# Altium integrated library C1005X5R1E224K050BC.IntLib: 1 symbol
Pins are listed as number, name and electrical type; pins without a type are passive.

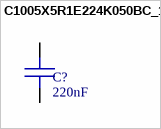
[diagram p0: symbol C1005X5R1E224K050BC_1]

## C1005X5R1E224K050BC_1
designator C?, comment 220nF
Mfr_Name: TDK
footprint CAP_1005_TDK (Footprint not found)
pins: 1, 2